# EAGLE library part ESP32-C6-MINI-1-N4 (library ESP32-C6-MINI-1-N4)
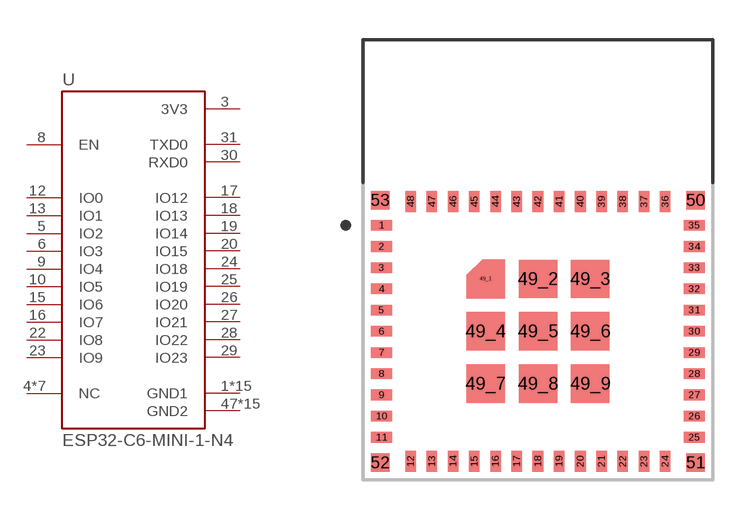
[diagram p0: symbol with the pads of XCVR_ESP32-C6-MINI-1-N4; footprint XCVR_ESP32-C6-MINI-1-N4]

Designator prefix U

## ESP32-C6-MINI-1-N4 (MANUFACTURER: Espressif Systems; MAXIMUM_PACKAGE_HEIGHT: 2.55 mm; PARTREV: 1.0; STANDARD: Manufacturer recommendations)  [XCVR_ESP32-C6-MINI-1-N4]
1  GND1  pwr
2  GND1  pwr
3  3V3  pwr
4  NC  nc
5  IO2
6  IO3
7  NC  nc
8  EN  in
9  IO4
10  IO5
11  GND1  pwr
12  IO0
13  IO1
14  GND1  pwr
15  IO6
16  IO7
17  IO12
18  IO13
19  IO14
20  IO15
21  NC  nc
22  IO8
23  IO9
24  IO18
25  IO19
26  IO20
27  IO21
28  IO22
29  IO23
30  RXD0
31  TXD0
32  NC  nc
33  NC  nc
34  NC  nc
35  NC  nc
36  GND1  pwr
37  GND1  pwr
38  GND1  pwr
39  GND1  pwr
40  GND1  pwr
41  GND1  pwr
42  GND1  pwr
43  GND1  pwr
44  GND1  pwr
45  GND1  pwr
46  GND1  pwr
47  GND2  pwr
48  GND2  pwr
49_1  GND2  pwr
49_2  GND2  pwr
49_3  GND2  pwr
49_4  GND2  pwr
49_5  GND2  pwr
49_6  GND2  pwr
49_7  GND2  pwr
49_8  GND2  pwr
49_9  GND2  pwr
50  GND2  pwr
51  GND2  pwr
52  GND2  pwr
53  GND2  pwr

## Footprint XCVR_ESP32-C6-MINI-1-N4 (pad centres in mm)
smd 0.8 x 0.4: 1 -5.9,4; 2 -5.9,3.2; 3 -5.9,2.4; 4 -5.9,1.6; 5 -5.9,0.8; 6 -5.9,0; 7 -5.9,-0.8; 8 -5.9,-1.6; 9 -5.9,-2.4; 10 -5.9,-3.2; 11 -5.9,-4; 25 5.9,-4; 26 5.9,-3.2; 27 5.9,-2.4; 28 5.9,-1.6; 29 5.9,-0.8; 30 5.9,0; 31 5.9,0.8; 32 5.9,1.6; 33 5.9,2.4; 34 5.9,3.2; 35 5.9,4
smd 0.4 x 0.8: 12 -4.8,-4.9; 13 -4,-4.9; 14 -3.2,-4.9; 15 -2.4,-4.9; 16 -1.6,-4.9; 17 -0.8,-4.9; 18 0,-4.9; 19 0.8,-4.9; 20 1.6,-4.9; 21 2.4,-4.9; 22 3.2,-4.9; 23 4,-4.9; 24 4.8,-4.9; 36 4.8,4.9; 37 4,4.9; 38 3.2,4.9; 39 2.4,4.9; 40 1.6,4.9; 41 0.8,4.9; 42 0,4.9; 43 -0.8,4.9; 44 -1.6,4.9; 45 -2.4,4.9; 46 -3.2,4.9; 47 -4,4.9; 48 -4.8,4.9
smd 0.4 x 0.4: 49_1 -1.975,1.975
smd 1.45 x 1.45: 49_2 0,1.975; 49_3 1.975,1.975; 49_4 -1.975,0; 49_5 0,0; 49_6 1.975,0; 49_7 -1.975,-1.975; 49_8 0,-1.975; 49_9 1.975,-1.975
smd 0.7 x 0.7: 50 5.95,4.95; 51 5.95,-4.95; 52 -5.95,-4.95; 53 -5.95,4.95